# Altium schematic symbol library Var_7.SchLib: 5 symbols
Pins are listed as number, name and electrical type; pins without a type are passive.

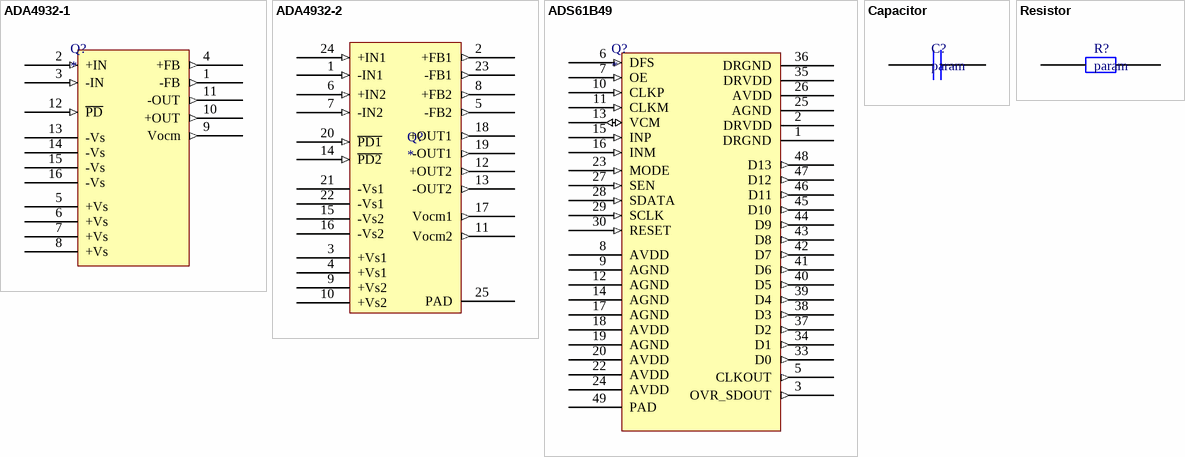
[diagram p0: symbols ADA4932-1 to Resistor]

## ADA4932-1
designator Q?
footprint QFN17 (QFN, 16-Leads, Body 3.00x3.00mm, Pitch 0.50mm, Thermal Pad 1.30x1.30mm, IPC Medium Density)
pins: 1 -FB (out), 2 +IN (in), 3 -IN (in), 4 +FB (out), 5 +Vs (power), 6 +Vs (power), 7 +Vs (power), 8 +Vs (power), 9 Vocm (out), 10 +OUT (out), 11 -OUT (out), 12 ~{PD} (in), 13 -Vs (power), 14 -Vs (power), 15 -Vs (power), 16 -Vs (power), 17 PAD hidden

## ADA4932-2
designator Q?
footprint QFN25 (QFN, 24-Leads, Body 4.00x4.00mm, Pitch 0.50mm, Thermal Pad 2.30x2.30mm, IPC Medium Density)
pins: 1 -IN1 (in), 2 +FB1 (out), 3 +Vs1 (power), 4 +Vs1 (power), 5 -FB2 (out), 6 +IN2 (in), 7 -IN2 (in), 8 +FB2 (out), 9 +Vs2 (power), 10 +Vs2 (power), 11 Vocm2 (out), 12 +OUT2 (out), 13 -OUT2 (out), 14 ~{PD2} (in), 15 -Vs2 (power), 16 -Vs2 (power), 17 Vocm1 (out), 18 +OUT1 (out), 19 -OUT1 (out), 20 ~{PD1} (in), 21 -Vs1 (power), 22 -Vs1 (power), 23 -FB1 (out), 24 +IN1 (in), 25 PAD

## ADS61B49
designator Q?
footprint QFN49 (QFN, 48-Leads, Body 7.00x7.00mm, Pitch 0.50mm, Thermal Pad 5.61x5.61mm, IPC Medium Density)
pins: 1 DRGND (power), 2 DRVDD (power), 3 OVR_SDOUT (out), 4 UNUSED hidden, 5 CLKOUT (out), 6 DFS (in), 7 OE (in), 8 AVDD (power), 9 AGND (power), 10 CLKP (in), 11 CLKM (in), 12 AGND (power), 13 VCM (io), 14 AGND (power), 15 INP (in), 16 INM (in), 17 AGND (power), 18 AVDD (power), 19 AGND (power), 20 AVDD (power), 21 NC hidden, 22 AVDD (power), 23 MODE (in), 24 AVDD (power), 25 AGND (power), 26 AVDD (power), 27 SEN (in), 28 SDATA (in), 29 SCLK (in), 30 RESET (in), 31 NC hidden, 32 NC hidden, 33 D0 (out), 34 D1 (out), 35 DRVDD (power), 36 DRGND (power), 37 D2 (out), 38 D3 (out), 39 D4 (out), 40 D5 (out), 41 D6 (out), 42 D7 (out), 43 D8 (out), 44 D9 (out), 45 D10 (out), 46 D11 (out), 47 D12 (out), 48 D13 (out), 49 PAD

## Capacitor
designator C?, comment param
footprint CAP0603 (Chip Capacitor, 2-Leads, Body 1.60x0.80mm, IPC Medium Density)
pins: 1, 2

## Resistor
designator R?, comment param
footprint RES0805 (Chip Resistor, 2-Leads, Body 2.10x1.25mm, IPC Medium Density)
pins: 1, 2